# Altium schematic symbol library SCH - SWITCH - NCE CUS-12TB.SCHLIB: 1 symbol
Pins are listed as number, name and electrical type; pins without a type are passive.

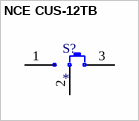
[diagram p0: symbol NCE CUS-12TB]

## NCE CUS-12TB
designator S?
pins: 1, 2 COM, 3